# EAGLE library part EFM32HG322F64G (library EFM32HG322F64G)
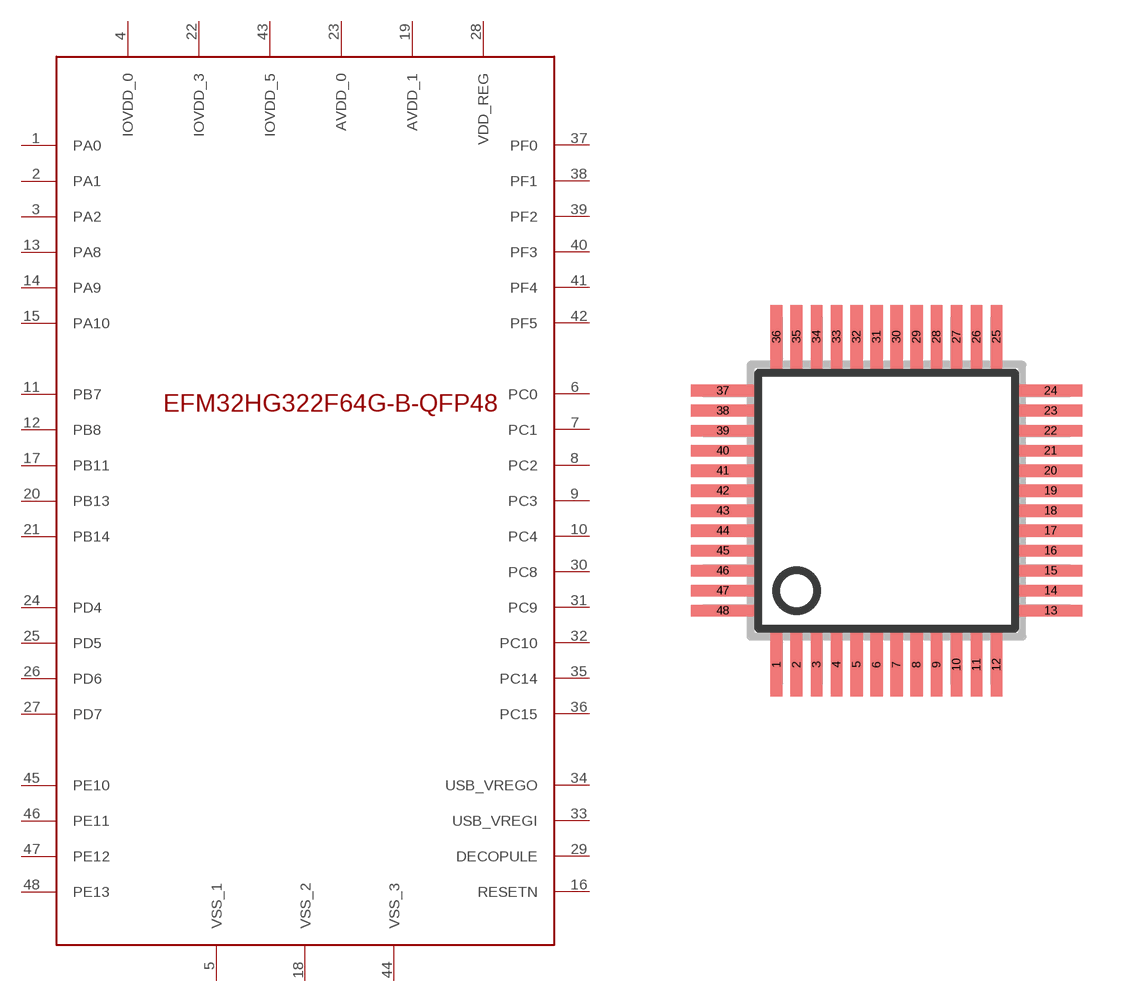
[diagram p0: symbol with the pads of TQFP48_7X7; footprint TQFP48_7X7]

Designator prefix U1

## EFM32HG322F64G  [TQFP48_7X7]
1  PA0
2  PA1
3  PA2
4  IOVDD_0
5  VSS_1
6  PC0
7  PC1
8  PC2
9  PC3
10  PC4
11  PB7
12  PB8
13  PA8
14  PA9
15  PA10
16  RESETN
17  PB11
18  VSS_2
19  AVDD_1
20  PB13
21  PB14
22  IOVDD_3
23  AVDD_0
24  PD4
25  PD5
26  PD6
27  PD7
28  VDD_REG
29  DECOPULE
30  PC8
31  PC9
32  PC10
33  USB_VREGI
34  USB_VREGO
35  PC14
36  PC15
37  PF0
38  PF1
39  PF2
40  PF3
41  PF4
42  PF5
43  IOVDD_5
44  VSS_3
45  PE10
46  PE11
47  PE12
48  PE13

## Footprint TQFP48_7X7 (pad centres in mm)
Thin Quad Flat Package from SMD-IPC.lbr SQFP48 7x7
smd 0.3 x 1.6: 1 -2.75,-4.1; 2 -2.25,-4.1; 3 -1.75,-4.1; 4 -1.25,-4.1; 5 -0.75,-4.1; 6 -0.25,-4.1; 7 0.25,-4.1; 8 0.75,-4.1; 9 1.25,-4.1; 10 1.75,-4.1; 11 2.25,-4.1; 12 2.75,-4.1; 25 2.75,4.1; 26 2.25,4.1; 27 1.75,4.1; 28 1.25,4.1; 29 0.75,4.1; 30 0.25,4.1; 31 -0.25,4.1; 32 -0.75,4.1; 33 -1.25,4.1; 34 -1.75,4.1; 35 -2.25,4.1; 36 -2.75,4.1
smd 1.6 x 0.3: 13 4.1,-2.75; 14 4.1,-2.25; 15 4.1,-1.75; 16 4.1,-1.25; 17 4.1,-0.75; 18 4.1,-0.25; 19 4.1,0.25; 20 4.1,0.75; 21 4.1,1.25; 22 4.1,1.75; 23 4.1,2.25; 24 4.1,2.75; 37 -4.1,2.75; 38 -4.1,2.25; 39 -4.1,1.75; 40 -4.1,1.25; 41 -4.1,0.75; 42 -4.1,0.25; 43 -4.1,-0.25; 44 -4.1,-0.75; 45 -4.1,-1.25; 46 -4.1,-1.75; 47 -4.1,-2.25; 48 -4.1,-2.75